# EAGLE library part OPA2810 (library ICs)
OPA2810 Dual-Channel, 27-V, Rail-to-Rail Input/Output FET-Input Operational Amplifier
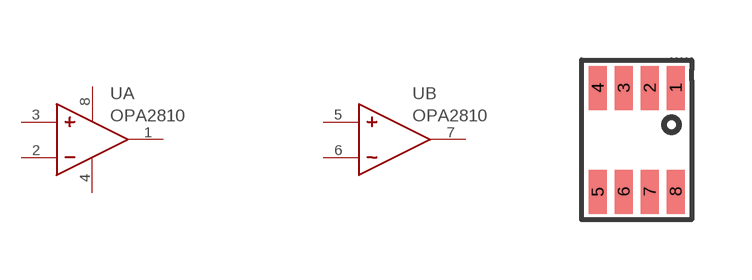
[diagram p222: symbol with the pads of SOT23-8; footprint SOT23-8]

Designator prefix U; gates B=OPAMP_NOSUPPLIES A=OPAMP_SUPPLIES

## OPA2810IDCNT (DIGIKEY: 296-50278-1-ND; HEIGHT: 1.5; PRICE_PER: 3.51; VALUE: OPA2810)  [SOT23-8]
1  A:OUT
2  A:-
3  A:+
4  A:V-
5  B:+
6  B:-
7  B:OUT
8  A:V+

## Footprint SOT23-8 (pad centres in mm)
smd 0.45 x 1.1: 1 0.975,1.3; 2 0.325,1.3; 3 -0.325,1.3; 4 -0.975,1.3; 5 -0.975,-1.3; 6 -0.325,-1.3; 7 0.325,-1.3; 8 0.975,-1.3